# EAGLE library part 8185 (library micro-intel)
MICROCOMPUTER/PERIPHERAL DEVICE
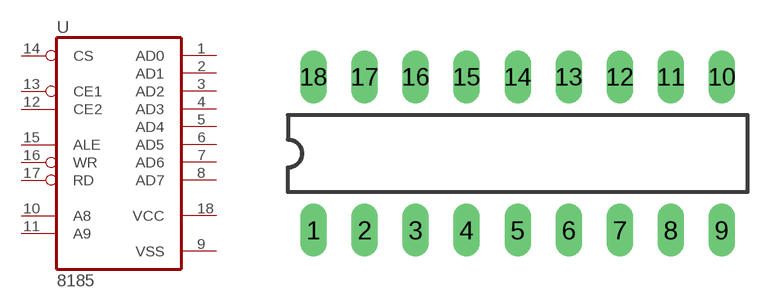
[diagram p66: symbol with the pads of DIL18; footprint DIL18]

Designator prefix U

## 8185  [DIL18]
1  AD0
2  AD1
3  AD2
4  AD3
5  AD4
6  AD5
7  AD6
8  AD7
9  VSS  pwr
10  A8  in
11  A9  in
12  CE2  in
13  CE1  in
14  CS  in
15  ALE  in
16  WR  in
17  RD  in
18  VCC  pwr

## Footprint DIL18 (pad centres in mm)
Dual In Line Package
drill 0.813 long: 1 -10.16,-3.81; 2 -7.62,-3.81; 3 -5.08,-3.81; 4 -2.54,-3.81; 5 0,-3.81; 6 2.54,-3.81; 7 5.08,-3.81; 8 7.62,-3.81; 9 10.16,-3.81; 10 10.16,3.81; 11 7.62,3.81; 12 5.08,3.81; 13 2.54,3.81; 14 0,3.81; 15 -2.54,3.81; 16 -5.08,3.81; 17 -7.62,3.81; 18 -10.16,3.81